# EAGLE library part TPS62233DRYR (library IC)
IC REG BUCK 3V 500MA 6SON Manufacturer's datasheet <https://www.ti.com/lit/ds/symlink/tps62230.pdf?HQS=dis-dk-null-digikeymode-dsf-pf-null-wwe&ts=1645601682253&ref_url=https%253A%252F%252Fwww.ti.com%252Fgeneral%252Fdocs%252Fsuppproductinfo.tsp%253FdistId%253D10%2526gotoUrl%253Dhttps%253A%252F%252Fwww.ti.com%252Flit%252Fgpn%252Ftps62230>
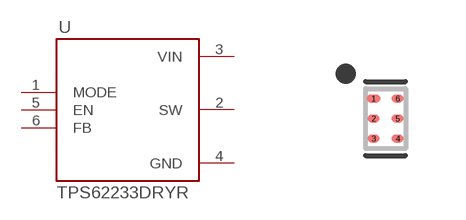
[diagram p50: symbol with the pads of 6-SON; footprint 6-SON]

Designator prefix U

## TPS62233DRYR (CREATED_BY: PCBLayout.com; DIGIKEY_PARTNO: 296-46475-6-ND; MANUFACTURER: Texas Instruments; MPN: TPS62233DRYR; PACKAGE: 6-SON)  [6-SON]
1  MODE  in
2  SW  out
3  VIN  pwr
4  GND  pwr
5  EN  in
6  FB  in

## Footprint 6-SON (pad centres in mm)
6-SON, 0.50 mm pitch, 1.50 X 1.00 X 0.65 mm body 6-pin SON package with 0.50 mm pitch with body size 1.50 X 1.00 X 0.65 mm
smd 0.35 x 0.2: 1 -0.3,0.5
smd 0.3 x 0.2: 2 -0.3,0; 3 -0.3,-0.5; 4 0.3,-0.5; 5 0.3,0; 6 0.3,0.5